# Altium schematic symbol library BIPOLAR-NPN-ECB.SchLib: 1 symbol
Pins are listed as number, name and electrical type; pins without a type are passive.

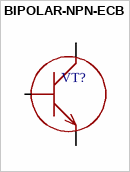
[diagram p0: symbol BIPOLAR-NPN-ECB]

## BIPOLAR-NPN-ECB
designator VT?
footprint SOT23-3
footprint TO-92
footprint TO-252
footprint TO-220-3
footprint TO-247-3
footprint SOT-223-3
footprint TO-220-3-BEND
footprint TO-126
footprint SOT-89
pins: 1 E, 2 C, 3 B